# Altium footprint library blum_SumoBRD_ECEN2440F24.PcbLib: 17 footprints (part 2 of 2)
Each footprint in its own frame and in the unit in brackets; x right, y up, seen from the top. Pads: shape width x height; smd on the part's side, far side on the other; paste and mask are expansions set on the pad; w line width, h text height; cw(c..) or ccw(c..) is an arc to the next point about the centre after c.
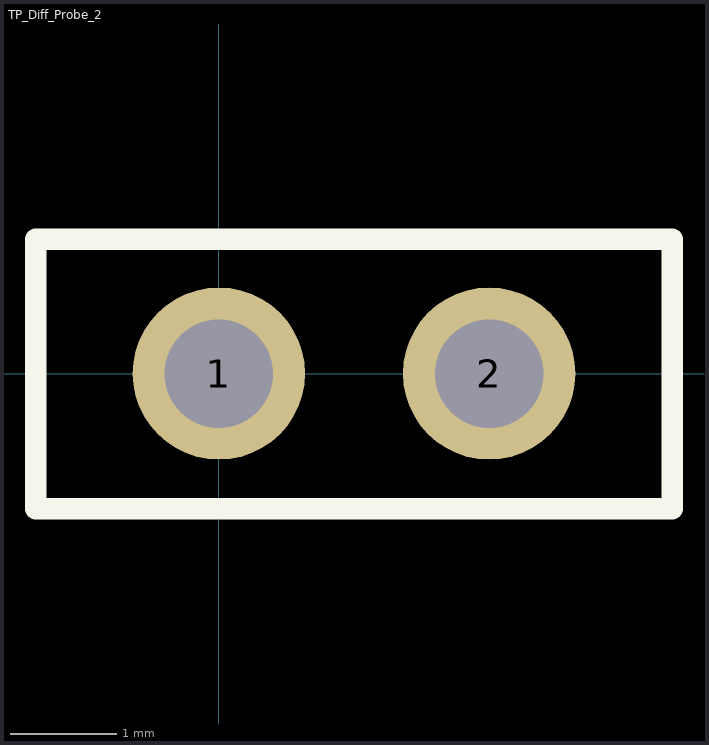
[diagram p1: the footprint, top view; thin cyan lines are the x and y axes]

## TP_Diff_Probe_2 [mm]
pads (2):
  round 1.62 hole 1.02: 1(0,0) 2(2.54,0)
Top Overlay:
  lines w0.2: -1.72,-1.27 3.556,-1.27 4.26,-1.27 4.26,1.261 -1.72,1.261 -1.72,-1.27
Top Solder:
  circle w0: c2.54,0 r0.861
  circle w0: c0,0 r0.861
Bottom Solder:
  circle w0: c2.54,0 r0.861
  circle w0: c0,0 r0.861